# EAGLE library part EPIC-PROG-PORT (library epic)
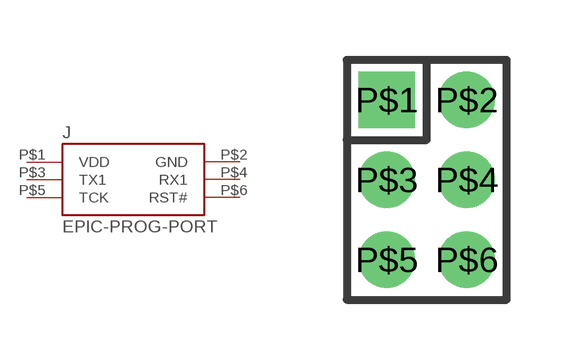
[diagram p4: symbol with the pads of HEADER2X3X2MM; footprint HEADER2X3X2MM]

Designator prefix J

## EPIC-PROG-PORT  [HEADER2X3X2MM]
P$1  VDD
P$2  GND
P$3  TX1
P$4  RX1
P$5  TCK
P$6  RST#

## Footprint HEADER2X3X2MM (pad centres in mm)
drill 0.9 square: P$1 -1,2
drill 0.9: P$2 1,2; P$3 -1,0; P$4 1,0; P$5 -1,-2; P$6 1,-2